# EAGLE library part W65C02S6TPLG (library 6502)
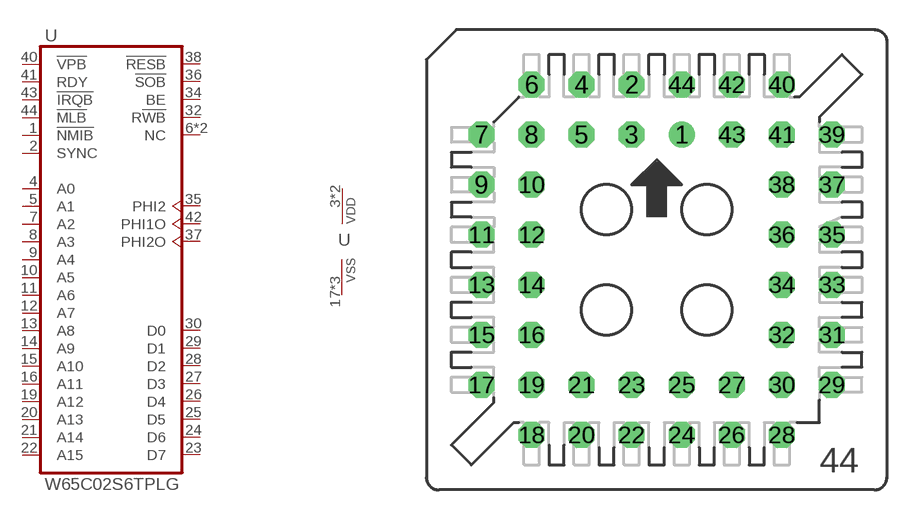
[diagram p3: symbol with the pads of S44; footprint S44]

Designator prefix -; gates G$1=W65C02 G$2=PWRN

## W65C02S6TPLG  [S44]
1  G$1:!NMIB  in
2  G$1:SYNC  out
3  G$2:VDD  pwr
4  G$1:A0  out
5  G$1:A1  out
6  G$1:NC  nc
7  G$1:A2  out
8  G$1:A3  out
9  G$1:A4  out
10  G$1:A5  out
11  G$1:A6  out
12  G$1:A7  out
13  G$1:A8  out
14  G$1:A9  out
15  G$1:A10  out
16  G$1:A11  out
17  G$2:VSS  pwr
18  G$2:VSS  pwr
19  G$1:A12  out
20  G$1:A13  out
21  G$1:A14  out
22  G$1:A15  out
23  G$1:D7
24  G$1:D6
25  G$1:D5
26  G$1:D4
27  G$1:D3
28  G$1:D2
29  G$1:D1
30  G$1:D0
31  G$2:VDD  pwr
32  G$1:R!WB  out
33  G$1:NC  nc
34  G$1:BE  in
35  G$1:PHI2  in
36  G$1:!SOB  in
37  G$1:PHI2O  out
38  G$1:!RESB  in
39  G$2:VSS  pwr
40  G$1:!VPB  out
41  G$1:RDY  in
42  G$1:PHI1O  out
43  G$1:!IRQB  in
44  G$1:!MLB  out

## Footprint S44 (pad centres in mm)
PLCC SOCKET
drill 0.813: 1 1.27,6.35
drill 0.813 octagon: 2 -1.27,8.89; 3 -1.27,6.35; 4 -3.81,8.89; 5 -3.81,6.35; 6 -6.35,8.89; 7 -8.89,6.35; 8 -6.35,6.35; 9 -8.89,3.81; 10 -6.35,3.81; 11 -8.89,1.27; 12 -6.35,1.27; 13 -8.89,-1.27; 14 -6.35,-1.27; 15 -8.89,-3.81; 16 -6.35,-3.81; 17 -8.89,-6.35; 18 -6.35,-8.89; 19 -6.35,-6.35; 20 -3.81,-8.89; 21 -3.81,-6.35; 22 -1.27,-8.89; 23 -1.27,-6.35; 24 1.27,-8.89; 25 1.27,-6.35; 26 3.81,-8.89; 27 3.81,-6.35; 28 6.35,-8.89; 29 8.89,-6.35; 30 6.35,-6.35; 31 8.89,-3.81; 32 6.35,-3.81; 33 8.89,-1.27; 34 6.35,-1.27; 35 8.89,1.27; 36 6.35,1.27; 37 8.89,3.81; 38 6.35,3.81; 39 8.89,6.35; 40 6.35,8.89; 41 6.35,6.35; 42 3.81,8.89; 43 3.81,6.35; 44 1.27,8.89